# EAGLE library part SW-PWR-E-SWITCH (library _RoweTel)
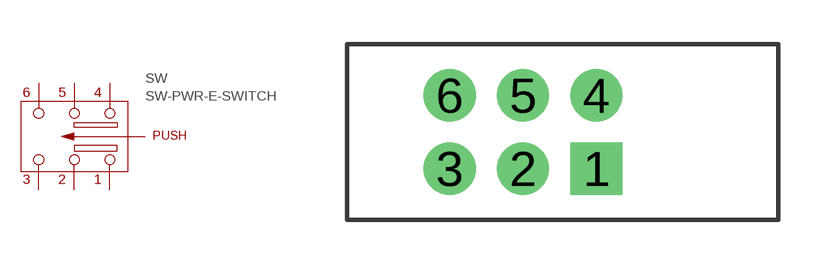
[diagram p63: symbol with the pads of SW-PWR; footprint SW-PWR]

Designator prefix SW

## SW-PWR-E-SWITCH  [SW-PWR]
1  1
2  2
3  3
4  4
5  5
6  6

## Footprint SW-PWR (pad centres in mm)
drill 1 pad 1.778 square: 1 2.5,-1.25
drill 1 pad 1.778: 2 0,-1.25; 3 -2.5,-1.25; 4 2.5,1.25; 5 0,1.25; 6 -2.5,1.25